# Altium schematic symbol library SCH - POWER - SWITCHMODE - TI TPS61390RTE.SchLib: 1 symbol
Pins are listed as number, name and electrical type; pins without a type are passive.

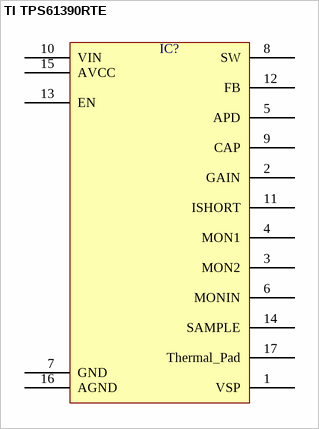
[diagram p0: symbol TI TPS61390RTE]

## TI TPS61390RTE
designator IC?  (value not drawn)
pins: 1 VSP, 2 GAIN, 3 MON2, 4 MON1, 5 APD, 6 MONIN, 7 GND, 8 SW, 9 CAP, 10 VIN, 11 ISHORT, 12 FB, 13 EN, 14 SAMPLE, 15 AVCC, 16 AGND, 17 Thermal_Pad